# Altium schematic symbol library BSZ105N04NS G.SchLib: 1 symbol
Pins are listed as number, name and electrical type; pins without a type are passive.

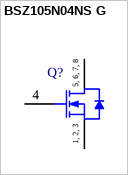
[diagram p0: symbol BSZ105N04NS G]

## BSZ105N04NS G
designator Q?
N-Channel OptiMOS 3 Power-Transistor, 40 V VDS, 40 A ID, -55 to 150 degC, PG-TSDSON-8-1, Reel, Green; Manufacturer: Infineon; PartNumber: BSZ105N04NS G; Green: TRUE; ID (max): 40 A; IDpuls (max): 160 A; Polarity: N; Ptot (max): 35 W; QG: 13 nC; RDS (on) (max): 10.5 mOhm; Rth: 3.6 K/W; RthJA (max): 60 K/W; VDS (max): 40 V; VGS(th) (max): 4 V; VGS(th) (min): 2 V; DatasheetVersion: Rev. 2.0; PackageVersion: Rev. 02, 09/2008; PackageReference: PG-TSDSON-8-1; PackageDescription: 8-Pin Plastic (Green) Thin Dual Small Outline Non-Leaded Package, 3.3 x 3.3 mm Body, 0.65 mm Pitch; Supplier 1: Digi-Key; Supplier Part Number 1: BSZ105N04NSGINTR-ND; Supplier 2: Digi-Key; Supplier Part Number 2: BSZ105N04NSGINCT-ND; Supplier 3: Digi-Key; Supplier Part Number 3: BSZ105N04NSGINDKR-ND; Supplier 4: Farnell; Supplier Part Number 4: 1775504; Supplier 5: Newark; Supplier Part Number 5: 60R2541; Supplier 6: Mouser; Supplier Part Number 6: 726-BSZ105N04NSG; Halogen-free: TRUE; Packing: Reel; RthJC (max): 3.6 K/W; Mounting Technology: Surface Mount; ComponentLink1Description: Manufacturer URL; ComponentLink1URL: http://www.infineon.com/; ComponentLink2Description: Datasheet; ComponentLink2URL: http://www.infineon.com/dgdl/BSZ105N04NSG_rev2.pdf?folderId=db3a3043156fd5730115c7d50620107c&fileId=db3a30431689f4420116c485c67f084e; ComponentLink3Description: Package Specification; ComponentLink3URL: http://www.infineon.com/dgdl/BSZ240N12NS3+Rev2.0.pdf?folderId=db3a304313b8b5a60113cee8763b02d7&fileId=db3a30432a40a650012a42f3057a0038
footprint INF-PG-TSDSON-8-1_V (TSDSON, 8-Leads, Body 3.3x3.3mm, Pitch 0.65mm)
pins: 1 SOURCE, 2 SOURCE, 3 SOURCE, 4 GATE, 5 DRAIN, 6 DRAIN, 7 DRAIN, 8 DRAIN
text: 5, 6, 7, 8; 1, 2, 3